# EAGLE library part LM5085 (library IC, Buck_Controller - lm5050)
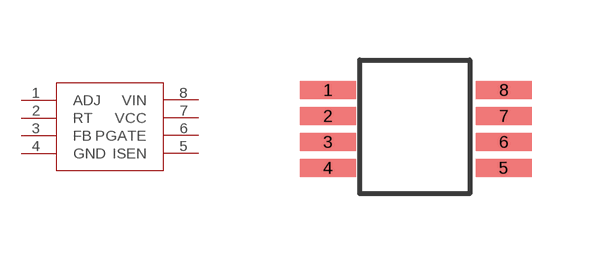
[diagram p0: symbol with the pads of LM5085; footprint LM5085]

Designator prefix -

## LM5085  [LM5085]
1  ADJ
2  RT
3  FB
4  GND
5  ISEN
6  PGATE
7  VCC
8  VIN

## Footprint LM5085 (pad centres in mm)
smd 1.4 x 0.45: 1 0,1.95; 2 0,1.3; 3 0,0.65; 4 0,0; 5 4.4,0; 6 4.4,0.65; 7 4.4,1.3; 8 4.4,1.95